# Altium footprint library Infineon Discrete Diode.PcbLib: 12 footprints
Each footprint in its own frame and in the unit in brackets; x right, y up, seen from the top. Pads: shape width x height; smd on the part's side, far side on the other; paste and mask are expansions set on the pad; w line width, h text height; cw(c..) or ccw(c..) is an arc to the next point about the centre after c.
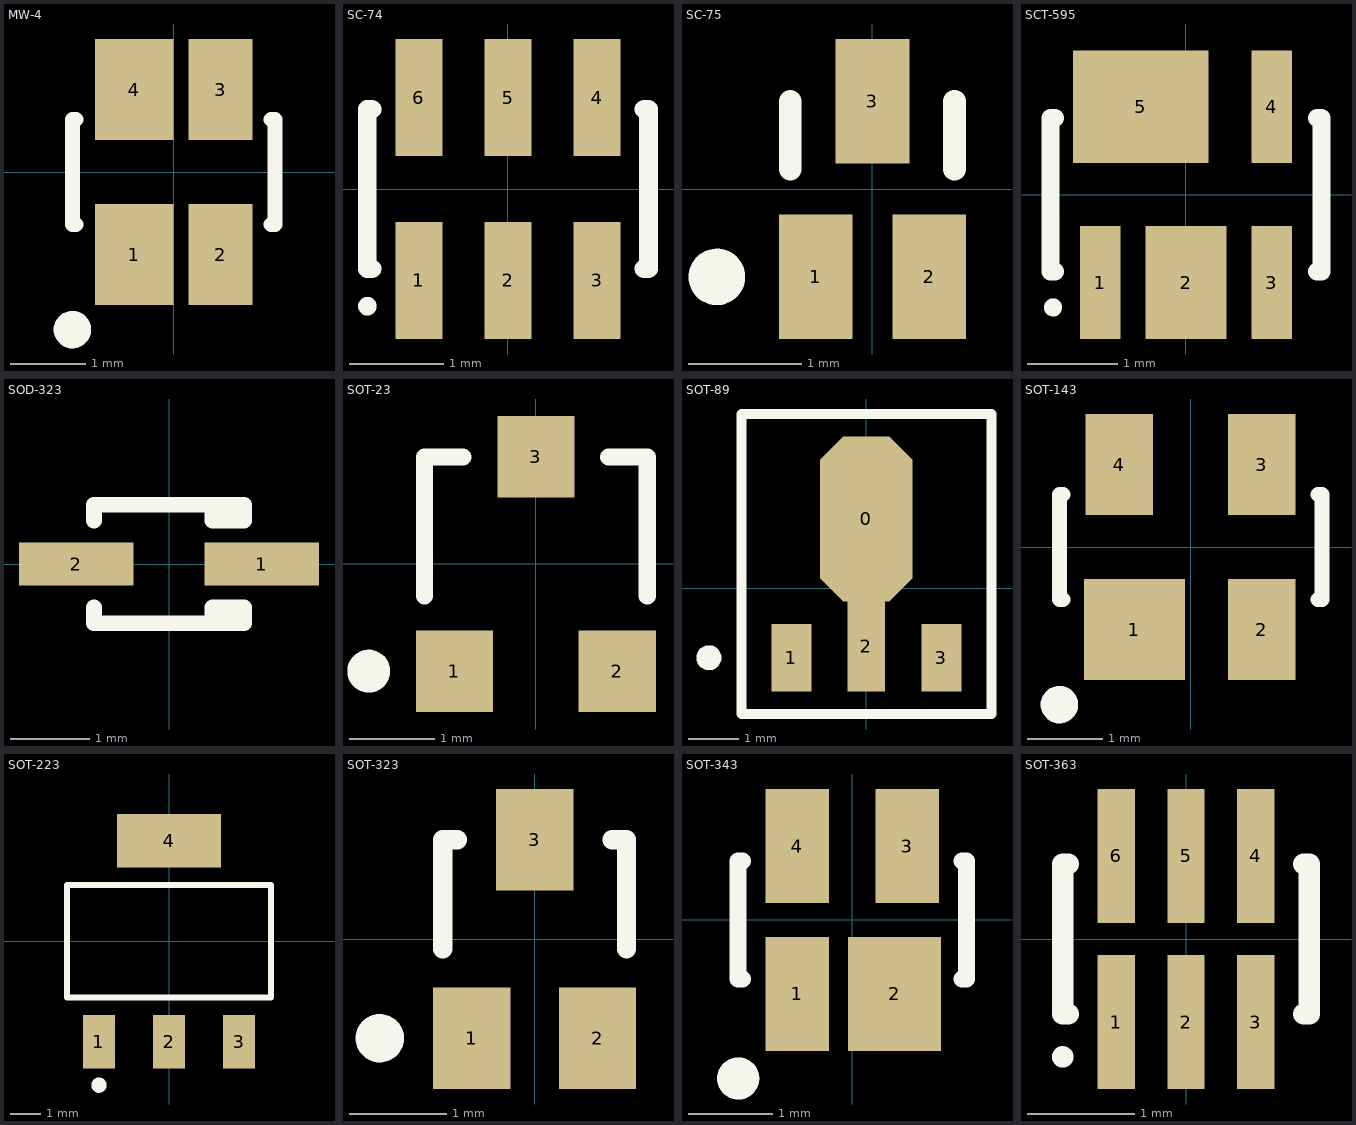
[diagram p0: the footprints below, top view; thin cyan lines are the x and y axes]

## MW-4 [mm] "SOT-143; 4 Leads; Body 3 x 2.6 mm, inc. leads (LxW max)"
height 1.1
pads (4):
  rect 1.05x1.35 smd: 1(-0.525,-1.1) 4(-0.525,1.1)
  rect 0.85x1.35 smd: 2(0.625,-1.1) 3(0.625,1.1)
Top Overlay:
  circle w0.25: c-1.35,-2.1 r0.125
  lines w0.2: -1.3,-0.7 -1.35,-0.7 -1.35,0.7 -1.3,0.7 ; 1.3,-0.7 1.35,-0.7 1.35,0.7 1.3,0.7

## SC-74 [mm] "SOT-457/SC-74; 6 Leads; Body 3.1 x 2.6 mm, inc. leads (LxW max)"
height 1.1
pads (6):
  rect 0.5x1.25 smd: 1(-0.95,-0.975) 2(0,-0.975) 3(0.95,-0.975) 4(0.95,0.975) 5(0,0.975) 6(-0.95,0.975)
Top Overlay:
  circle w0.1: c-1.5,-1.25 r0.05
  lines w0.2: -1.45,-0.85 -1.5,-0.85 -1.5,0.85 -1.45,0.85 ; 1.45,-0.85 1.5,-0.85 1.5,0.85 1.45,0.85

## SC-75 [mm] "SOT-416/SC-90/SC-75; 3 Leads; Body 1.8 x 1.8 mm, inc. leads (LxW max)"
height 0.9
pads (3):
  rect 0.65x1.1 smd: 1(-0.5,-0.775) 2(0.5,-0.775) 3(0,0.775)
Top Overlay:
  circle w0.25: c-1.375,-0.777 r0.125
  lines w0.2: -0.725,0.175 -0.725,0.775 ; 0.725,0.175 0.725,0.775

## SCT-595 [mm] "Small Outline; 5 Leads; Body 3.1 x 2.6 mm, inc. leads (LxW max)"
height 1.1
pads (5):
  rect 0.45x1.25 smd: 1(-0.95,-0.975) 3(0.95,-0.975) 4(0.95,0.975)
  rect 0.9x1.25 smd: 2(0,-0.975)
  rect 1.5x1.25 smd: 5(-0.5,0.975)
Top Overlay:
  circle w0.1: c-1.475,-1.25 r0.05
  lines w0.2: -1.45,-0.85 -1.5,-0.85 -1.5,0.85 -1.45,0.85 ; 1.45,-0.85 1.5,-0.85 1.5,0.85 1.45,0.85

## SOD-323 [mm] "SOD-323/SC-76; 2 Leads; Body 1.7 x 1.3 mm, (LxW)"
height 1.1
pads (2):
  rect 1.45x0.55 smd: 1(1.175,0) 2(-1.175,0)
Top Overlay:
  lines w0.2: -0.95,-0.55 -0.95,-0.75 0.95,-0.75 0.95,-0.55 0.55,-0.55 0.55,-0.75 ; -0.95,0.55 -0.95,0.75 0.95,0.75 0.95,0.55 0.55,0.55 0.55,0.75

## SOT-23 [mm] "SOT-23; 3 Leads; Body 3.0 x 2.6 mm, inc. leads (LxW max)"
height 1.1
pads (3):
  rect 0.9x0.95 smd: 1(-0.95,-1.25) 2(0.95,-1.25) 3(0,1.25)
Top Overlay:
  circle w0.25: c-1.95,-1.25 r0.125
  lines w0.2: -1.3,-0.375 -1.3,1.25 -0.85,1.25 ; 0.85,1.25 1.3,1.25 1.3,-0.375

## SOT-89 [mm] "SOT-89; Body 4.6 x 4.25 mm, inc. leads (LxW max)"
height 1.6
pads (4):
  oct 1.85x3.3 smd: 0(0,1.388)
  rect 0.8x1.35 smd: 1(-1.5,-1.387) 3(1.5,-1.387)
  rect 0.75x1.8 smd: 2(0,-1.162)
Top Overlay:
  circle w0.25: c-3.15,-1.387 r0.125
  lines w0.2: -2.5,-2.512 2.5,-2.512 2.5,3.487 -2.5,3.487 -2.5,-2.512

## SOT-143 [mm] "SOT-143; 4 Leads; Body 3 x 2.6 mm, inc. leads (LxW max)"
height 1.1
pads (4):
  rect 1.35x1.35 smd: 1(-0.75,-1.1)
  rect 0.9x1.35 smd: 2(0.95,-1.1) 3(0.95,1.1) 4(-0.95,1.1)
Top Overlay:
  circle w0.25: c-1.75,-2.1 r0.125
  lines w0.2: -1.7,-0.7 -1.75,-0.7 -1.75,0.7 -1.7,0.7 ; 1.7,-0.7 1.75,-0.7 1.75,0.7 1.7,0.7

## SOT-223 [mm] "SOT-223/SC-73; 4 Leads; Body 6.7 x 7.3 mm, inc. leads (LxW max)"
height 1.8
pads (4):
  rect 1.05x1.75 smd: 1(-2.3,-3.3) 2(0,-3.3) 3(2.3,-3.3)
  rect 3.4x1.75 smd: 4(0,3.3)
Top Overlay:
  circle w0.25: c-2.3,-4.725 r0.125
  lines w0.2: -3.35,-1.85 -3.35,1.85 3.35,1.85 3.35,-1.85 -3.35,-1.85

## SOT-323 [mm] "SOT-323/SC-70; 3 Leads; Body 2.2 x 2.2 mm, inc. leads (LxW max)"
height 1
pads (3):
  rect 0.8x1.05 smd: 1(-0.65,-1.025) 2(0.65,-1.025) 3(0,1.025)
Top Overlay:
  circle w0.25: c-1.6,-1.025 r0.125
  lines w0.2: -0.95,-0.1 -0.95,1.025 -0.8,1.025 ; 0.8,1.025 0.95,1.025 0.95,-0.1

## SOT-343 [mm] "SOT-343; 4 Leads; Body 2.2 x 2.2 mm, inc. leads (LxW max)"
height 1
pads (4):
  rect 0.75x1.35 smd: 1(-0.65,-0.875) 3(0.65,0.875) 4(-0.65,0.875)
  rect 1.1x1.35 smd: 2(0.5,-0.875)
Top Overlay:
  circle w0.25: c-1.35,-1.875 r0.125
  lines w0.2: -1.3,-0.7 -1.35,-0.7 -1.35,0.7 -1.3,0.7 ; 1.3,-0.7 1.35,-0.7 1.35,0.7 1.3,0.7

## SOT-363 [mm] "SOT-363/SC-88; 6 Leads; Body 2.2 x 2.2 mm, inc. leads (LxW max)"
height 1
pads (6):
  rect 0.35x1.25 smd: 1(-0.65,-0.775) 2(0,-0.775) 3(0.65,-0.775) 4(0.65,0.775) 5(0,0.775) 6(-0.65,0.775)
Top Overlay:
  circle w0.1: c-1.15,-1.1 r0.05
  lines w0.2: -1.1,-0.7 -1.15,-0.7 -1.15,0.7 -1.1,0.7 ; 1.1,-0.7 1.15,-0.7 1.15,0.7 1.1,0.7